# Altium footprint library Конденсаторы пленочные.PcbLib: 6 footprints
Each footprint in its own frame and in the unit in brackets; x right, y up, seen from the top. Pads: shape width x height; smd on the part's side, far side on the other; paste and mask are expansions set on the pad; w line width, h text height; cw(c..) or ccw(c..) is an arc to the next point about the centre after c.
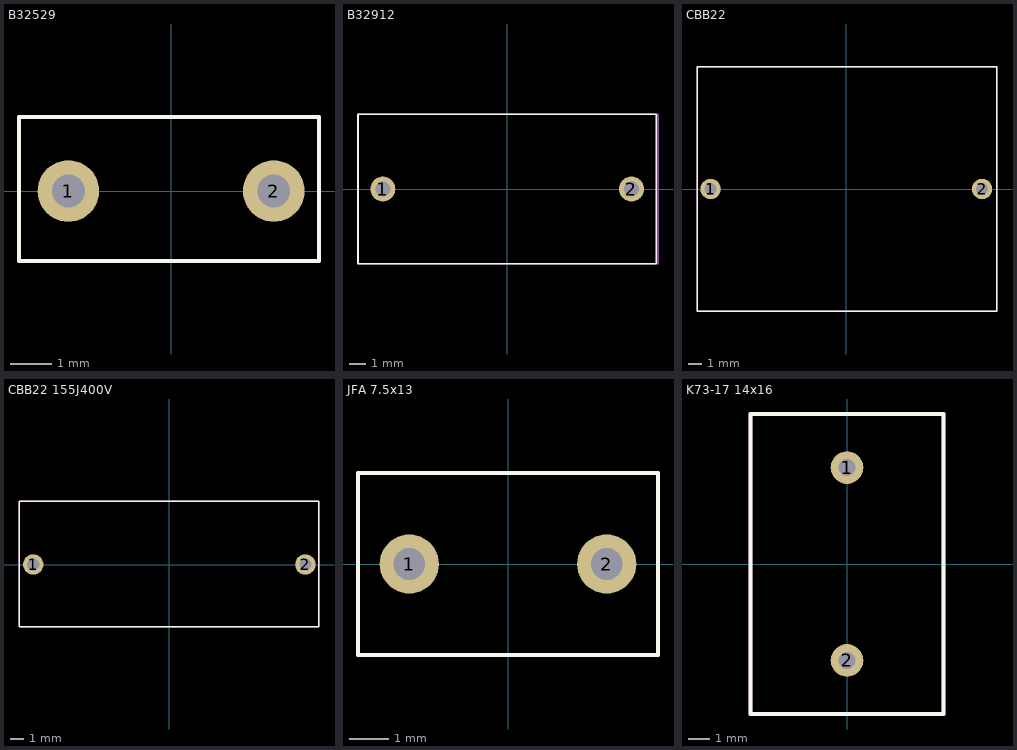
[diagram p0: the footprints below, top view; thin cyan lines are the x and y axes]

## B32529 [mm] "B32529"
height 1.1
pads (2):
  round 1.5 hole 0.8: 1(-2.5,0) 2(2.5,0)
Top Overlay:
  lines w0.1: -3.7,-1.7 -3.7,1.8 3.6,1.8 3.6,-1.7 -3.7,-1.7
TopAssy:
  lines w0.1: -3.7,-1.7 3.6,-1.7 3.6,1.8 -3.7,1.8 -3.7,-1.7
  text ".Designator" at -1.8,-0.8 h1.52
3D body "B32529C_3_5x8x7_3.step": height 8.1, standoff -2.9, extent -3.65,-1.75 3.65,1.75

## B32912 [mm] "B32529"
height 1.1
pads (2):
  round 1.5 hole 0.9: 1(-7.5,0) 2(7.5,0)
Top Overlay:
  lines w0.1: -9,-4.5 -9,4.5 9,4.5 9,-4.5 -9,-4.5
TopAssy:
  lines w0.1: -9,-4.5 9.1,-4.5 9.1,4.5 -9,4.5 -9,-4.5
  text ".Designator" at -1.8,-0.8 h1.52
3D body "B32912.step": height 17.6, standoff -5.9, extent -9,-4.5 9,4.5

## CBB22 [mm] "CBB22"
height 1.1
pads (2):
  round 1.5 hole 0.9: 1(-10,0) 2(10,0)
Top Overlay:
  lines w0.1: -11,-9 11.1,-9 11.1,9 -11,9 -11,-9
TopAssy:
  lines w0.1: -11,-9 -11,9 11.1,9 11.1,-9 -11,-9
  text ".Designator" at -1.8,-0.8 h1.52
3D body "CBB22.stp": height 14.5, standoff -3, extent -11.5,-9 11.5,9

## CBB22 155J400V [mm] "CBB22"
height 1.1
pads (2):
  round 1.5 hole 0.9: 1(-10,0) 2(10,0)
Top Overlay:
  lines w0.1: -11.05,-4.575 -11.05,4.65 11,4.65 11,-4.575 -11.05,-4.575
TopAssy:
  lines w0.1: -11.05,-4.575 11,-4.575 11,4.65 -11.05,4.65 -11.05,-4.575
  text ".Designator" at -1.6,-2.8 h1.52
3D body "CBB22 155J400V.stp": height 17, standoff -2.5, extent -11,-4.6 11,4.6

## JFA 7.5x13 [mm]
height 1.1
pads (2):
  round 1.5 hole 0.8: 1(-2.5,0) 2(2.5,0)
Top Overlay:
  lines w0.1: -3.8,-2.3 -3.8,2.3 3.8,2.3 3.8,-2.3 -3.8,-2.3
TopAssy:
  lines w0.1: -3.8,-2.3 3.8,-2.3 3.8,2.3 -3.8,2.3 -3.8,-2.3
  text ".Designator" at -1.8,-0.8 h1.52
3D body "2A223J.stp": height 14.5, standoff -2.5, extent -3.75,-2.25 3.75,2.25

## K73-17 14x16 [mm]
pads (2):
  round 1.524 hole 0.8: 1(0,4.5) 2(0,-4.5)
Top Overlay:
  lines w0.2: -4.5,-7 4.5,-7 4.5,7 -4.5,7 -4.5,-7
TopAssy:
  lines w0.2: -4.5,-7 4.5,-7 4.5,7 -4.5,7 -4.5,-7
3D body "К73-17_14_16_9_9.stp": height 18, standoff -3, extent -4.6,-7 4.4,7